# Altium integrated library Libreria-Switches.IntLib: 22 symbols
Pins are listed as number, name and electrical type; pins without a type are passive.

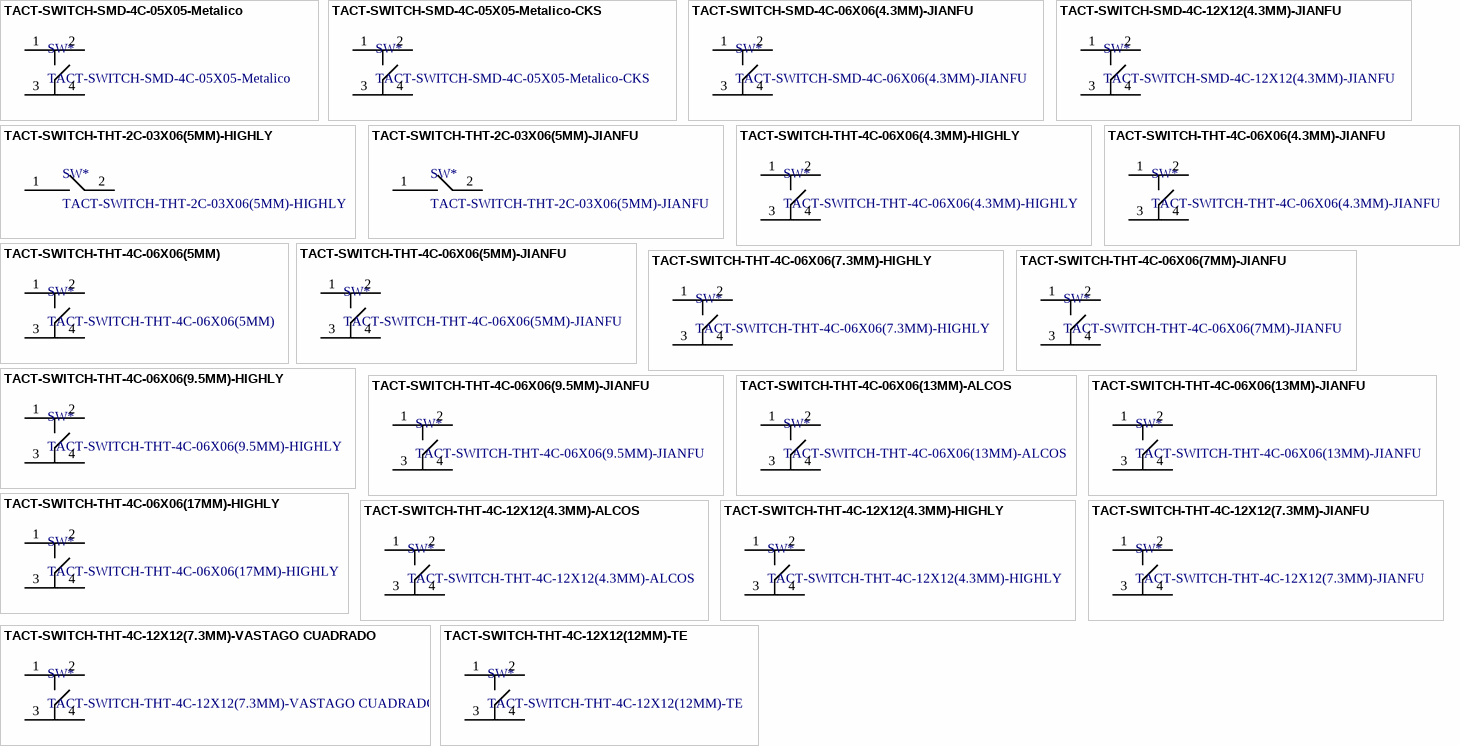
[diagram p0: symbols TACT-SWITCH-SMD-4C-05X05-Metalico to TACT-SWITCH-THT-4C-12X12(12MM)-TE]

## TACT-SWITCH-SMD-4C-05X05-Metalico
designator SW*
COD. ELEMON: SW5702199
footprint TACT-SWITCH-SMD-4C-05X05
pins: 1, 2, 3, 4

## TACT-SWITCH-SMD-4C-05X05-Metalico-CKS
designator SW*
COD. ELEMON: SW5702100
footprint TACT-SWITCH-SMD-4C-05X05
pins: 1, 2, 3, 4

## TACT-SWITCH-SMD-4C-06X06(4.3MM)-JIANFU
designator SW*
COD. ELEMON: SW5702450
footprint TACT-SWITCH-SMD-4C-06X06-4.3MM
pins: 1, 2, 3, 4

## TACT-SWITCH-SMD-4C-12X12(4.3MM)-JIANFU
designator SW*
COD. ELEMON: SW5702145
footprint TACT-SWITCH-SMD-4C-12X12-4.3MM
pins: 1, 2, 3, 4

## TACT-SWITCH-THT-2C-03X06(5MM)-HIGHLY
designator SW*
COD. ELEMON: SW5702080
footprint TACT-SWITCH-THT-2C-03X06-5MM
pins: 1, 2

## TACT-SWITCH-THT-2C-03X06(5MM)-JIANFU
designator SW*
COD. ELEMON: SW5702081
footprint TACT-SWITCH-THT-2C-03X06-5MM
pins: 1, 2

## TACT-SWITCH-THT-4C-06X06(4.3MM)-HIGHLY
designator SW*
COD. ELEMON: SW5702090
footprint TACT-SWITCH-THT-4C-06X06-4.3MM
pins: 1, 2, 3, 4

## TACT-SWITCH-THT-4C-06X06(4.3MM)-JIANFU
designator SW*
COD. ELEMON: SW5702091
footprint TACT-SWITCH-THT-4C-06X06-4.3MM
pins: 1, 2, 3, 4

## TACT-SWITCH-THT-4C-06X06(5MM)
designator SW*
COD. ELEMON: SW5702101
footprint TACT-SWITCH-THT-4C-06X06-5MM
pins: 1, 2, 3, 4

## TACT-SWITCH-THT-4C-06X06(5MM)-JIANFU
designator SW*
COD. ELEMON: SW5702102
footprint TACT-SWITCH-THT-4C-06X06-5MM
pins: 1, 2, 3, 4

## TACT-SWITCH-THT-4C-06X06(7.3MM)-HIGHLY
designator SW*
COD. ELEMON: SW5702110
footprint TACT-SWITCH-THT-4C-06X06-7.3MM (TACT-SWITCH-THT-4C-06X06-7.)
pins: 1, 2, 3, 4

## TACT-SWITCH-THT-4C-06X06(7MM)-JIANFU
designator SW*
COD. ELEMON: SW5702109
footprint TACT-SWITCH-THT-4C-06X06-13MM
pins: 1, 2, 3, 4

## TACT-SWITCH-THT-4C-06X06(9.5MM)-HIGHLY
designator SW*
COD. ELEMON: SW5702120
footprint TACT-SWITCH-THT-4C-06X06-9.5MM
pins: 1, 2, 3, 4

## TACT-SWITCH-THT-4C-06X06(9.5MM)-JIANFU
designator SW*
COD. ELEMON: SW5702121
footprint TACT-SWITCH-THT-4C-06X06-9.5MM
pins: 1, 2, 3, 4

## TACT-SWITCH-THT-4C-06X06(13MM)-ALCOS
designator SW*
COD. ELEMON: SW5702125
footprint TACT-SWITCH-THT-4C-06X06-13MM
pins: 1, 2, 3, 4

## TACT-SWITCH-THT-4C-06X06(13MM)-JIANFU
designator SW*
COD. ELEMON: SW5702124
footprint TACT-SWITCH-THT-4C-06X06-13MM
pins: 1, 2, 3, 4

## TACT-SWITCH-THT-4C-06X06(17MM)-HIGHLY
designator SW*
COD. ELEMON: SW5702128
footprint TACT-SWITCH-THT-4C-06X06-17MM
pins: 1, 2, 3, 4

## TACT-SWITCH-THT-4C-12X12(4.3MM)-ALCOS
designator SW*
COD. ELEMON: SW5702135
footprint TACT-SWITCH-THT-4C-12X12-4.3MM
pins: 1, 2, 3, 4

## TACT-SWITCH-THT-4C-12X12(4.3MM)-HIGHLY
designator SW*
COD. ELEMON: SW5702130
footprint TACT-SWITCH-THT-4C-12X12-4.3MM
pins: 1, 2, 3, 4

## TACT-SWITCH-THT-4C-12X12(7.3MM)-JIANFU
designator SW*
COD. ELEMON: SW5702140
footprint TACT-SWITCH-THT-4C-12X12-7.3MM
pins: 1, 2, 3, 4

## TACT-SWITCH-THT-4C-12X12(7.3MM)-VASTAGO CUADRADO
designator SW*
COD. ELEMON: SW5702141
footprint TACT-SWITCH-THT-4C-12X12-7.3MM
pins: 1, 2, 3, 4

## TACT-SWITCH-THT-4C-12X12(12MM)-TE
designator SW*
COD. ELEMON: SW5702150
footprint TACT-SWITCH-THT-4C-12X12-12MM
pins: 1, 2, 3, 4